# Altium schematic symbol library LT1306ES8&hash_PBF.SchLib: 2 symbols
Pins are listed as number, name and electrical type; pins without a type are passive.

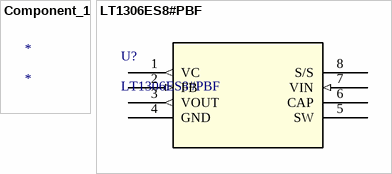
[diagram p0: symbols Component_1 to LT1306ES8#PBF]

## Component_1
designator *

## LT1306ES8#PBF
designator U?
No Description Available; Mfr_Name: Analog Devices / Linear Technology; Copyright: Copyright (C) 2022 Ultra Librarian. All rights reserved.; Manufacturer_Part_Number: LT1306ES8#PBF; Digi-Key_Part_Number_1: LT1306ES8#PBF-ND; RefDes: RefDes; Type: DEV
footprint SO-8_S_LIT
pins: 1 VC (out), 2 FB (in), 3 VOUT (out), 4 GND (power), 5 SW, 6 CAP, 7 VIN (in), 8 S/S